# Altium footprint library PcbLib1.PcbLib: 19 footprints (part 1 of 2)
Each footprint in its own frame and in the unit in brackets; x right, y up, seen from the top. Pads: shape width x height; smd on the part's side, far side on the other; paste and mask are expansions set on the pad; w line width, h text height; cw(c..) or ccw(c..) is an arc to the next point about the centre after c.
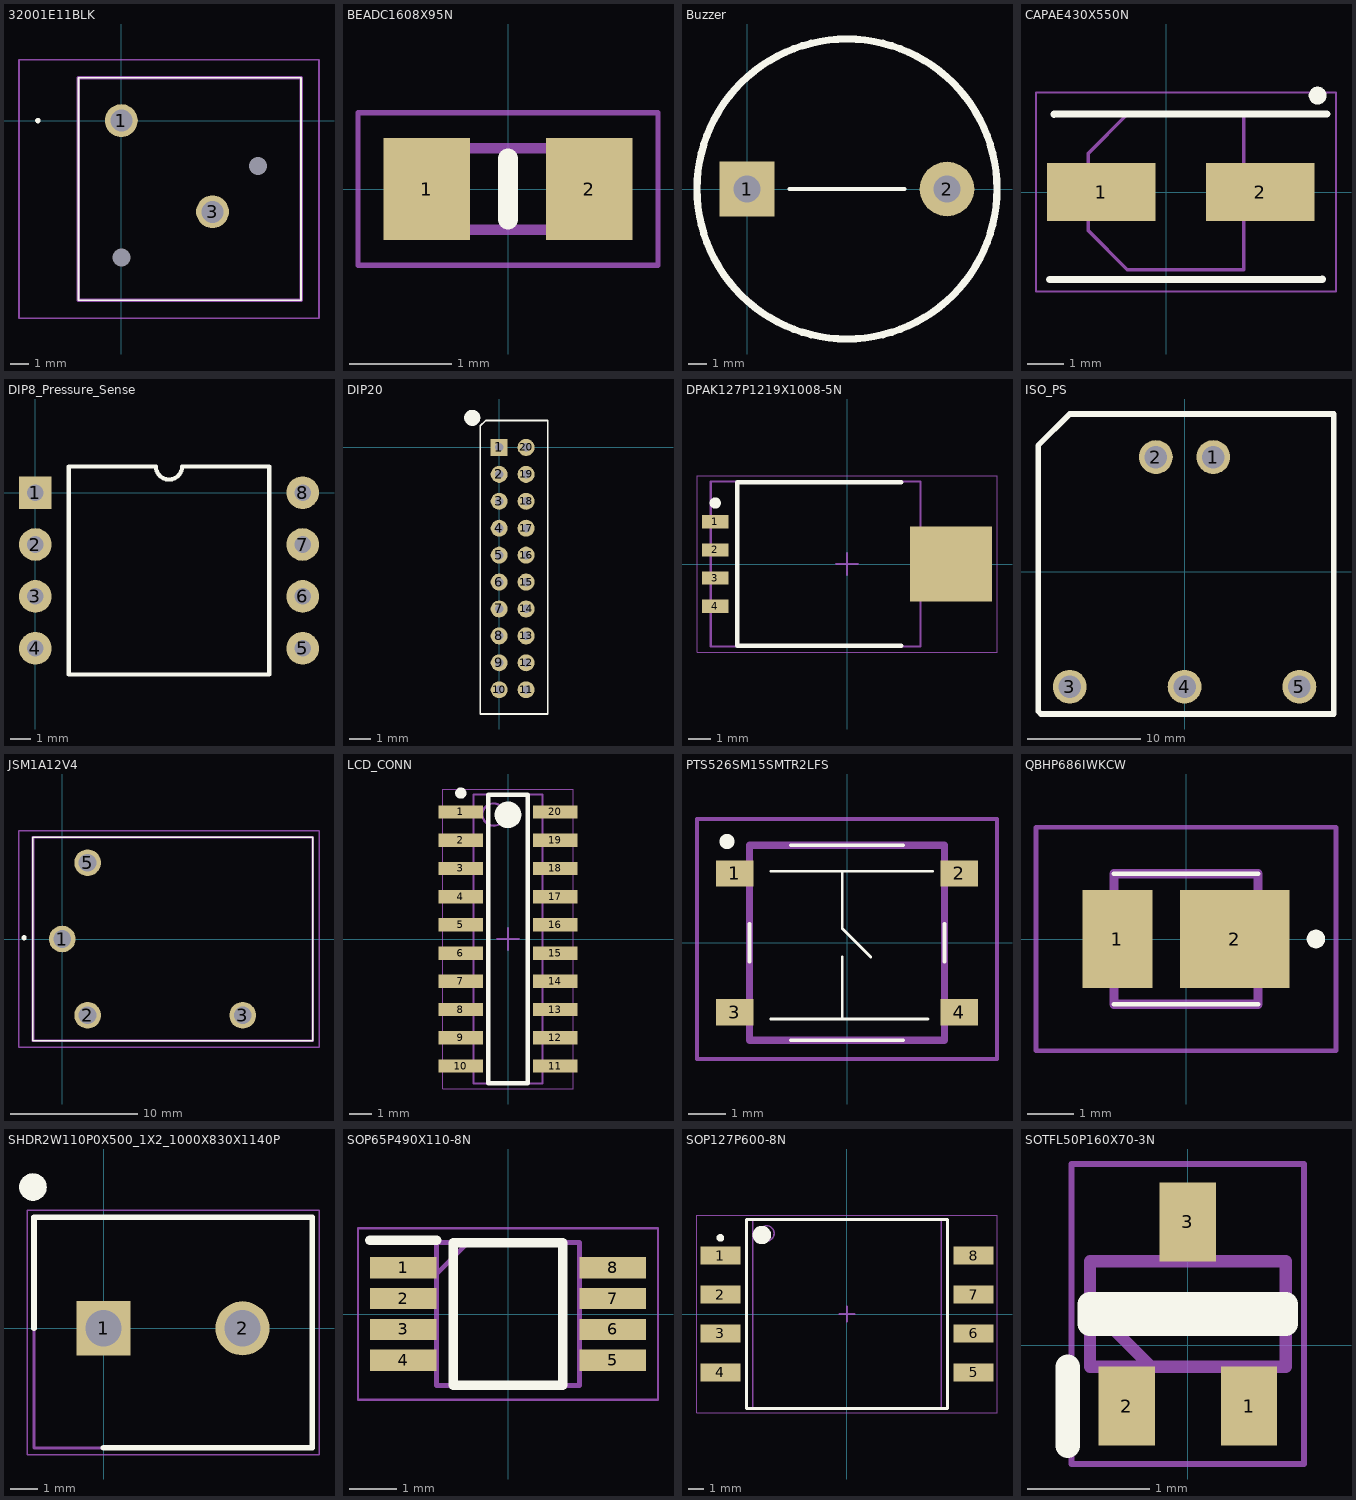
[diagram p0: the footprints below, top view; thin cyan lines are the x and y axes]

## 32001E11BLK [mm]
pads (4):
  round 1.83 hole 1.22: 1(0,0) 3(5.08,-5.08)
  round 0.5 hole 1 unplated: MH1(0,-7.62) MH2(7.62,-2.54)
Top Overlay:
  lines w0.1: -2.39,-10.01 -2.39,2.39 10,2.39 10,-10.01 -2.39,-10.01
  lines w0.2: -4.7,0 ccw(c-4.65,0) -4.6,0 ; -4.7,0 cw(c-4.65,0) -4.6,0 ; -4.7,0 ccw(c-4.65,0) -4.6,0
Mechanical 13:
  lines w0.2: -2.39,-10.01 -2.39,2.39 10.01,2.39 10.01,-10.01 -2.39,-10.01
Mechanical 15:
  lines w0.1: -5.7,-11.01 -5.7,3.39 11.01,3.39 11.01,-11.01 -5.7,-11.01
3D body "320E11xxx.stp": height 3.3, standoff -10.75, extent -2.415,-10.16 10.035,2.29

## BEADC1608X95N [mm]
pads (2):
  rect 0.85x1 smd: 1(-0.8,0) 2(0.8,0)
Top Overlay:
  lines w0.2: 0,-0.3 0,0.3
Mechanical 13:
  lines w0.1: -0.8,-0.4 -0.8,0.4 0.8,0.4 0.8,-0.4 -0.8,-0.4
Mechanical 15:
  lines w0.05: -1.475,-0.75 -1.475,0.75 1.475,0.75 1.475,-0.75 -1.475,-0.75
3D body "BLM18AG102SH1D.stp": height 0.95, standoff 0, extent -0.8,-0.4 0.8,0.4

## Buzzer [mm]
pads (2):
  rect 3x3 hole 1.5: 1(0,0)
  round 3 hole 1.5: 2(11,0)
Top Overlay:
  circle w0.4: c5.5,0 r8.25
  lines w0.2: 2.335,0 5.5,0 8.665,0 2.335,0
3D body "CUI_DEVICES_CPT-1667-85T.step": height 6.8, standoff -6.4, extent -3.043,-7.864 13.457,8.636

## CAPAE430X550N [mm]
pads (3):
  rect 3x1.6 smd: 1(-1.8,0) 2(2.6,0)
  round 0.5 on Top Overlay: ""(4.191,2.667)
Top Overlay:
  lines w0.2: -3.227,-2.422 4.318,-2.413 ; -3.1,2.15 4.445,2.159
Mechanical 13:
  lines w0.1: -2.15,-1.075 -2.15,1.075 -1.075,2.15 2.15,2.15 2.15,-2.15 -1.075,-2.15 -2.15,-1.075
Mechanical 15:
  lines w0.05: -3.6,-2.75 4.699,-2.75 4.699,2.75 -3.6,2.75 -3.6,-2.75
3D body "EEE-1VA100WR.stp": height 5.5, standoff 0, extent -2.3,-2.25 2.3,2.25

## DIP8_Pressure_Sense [mm]
pads (8):
  rect 1.6x1.6 hole 0.813: 1(0,0)
  round 1.6 hole 0.813: 2(0,-2.54) 3(0,-5.08) 4(0,-7.62) 5(13.08,-7.62) 6(13.08,-5.08) 7(13.08,-2.54) 8(13.08,0)
Top Overlay:
  lines w0.2: 1.635,-8.89 1.635,1.27 5.905,1.27 ccw(c6.54,1.27) 7.175,1.27 11.445,1.27 11.445,-8.89 1.635,-8.89

## DIP20 [mm]
pads (20):
  rect 0.8x0.8 hole 0.4: 1(0,0)
  round 0.8 hole 0.4: 2(0,-1.27) 3(0,-2.54) 4(0,-3.81) 5(0,-5.08) 6(0,-6.35) 7(0,-7.62) 8(0,-8.89) 9(0,-10.16) 10(0,-11.43) 11(1.27,-11.43) 12(1.27,-10.16) 13(1.27,-8.89) 14(1.27,-7.62) 15(1.27,-6.35) 16(1.27,-5.08) 17(1.27,-3.81) 18(1.27,-2.54) 19(1.27,-1.27) 20(1.27,0)
Top Overlay:
  circle w0.4: c-1.27,1.397 r0.18
  lines w0.076: -0.889,-12.573 -0.889,1.016 -0.635,1.27 2.286,1.27 2.286,-12.573 -0.889,-12.573

## DPAK127P1219X1008-5N [mm] "TO, 5-Pads, Body 7.84x7.08mm (max), IPC Medium Density"
height 10.08
pads (5):
  rect 1.2x0.6 smd: 1(-5.95,1.905) 2(-5.95,0.635) 3(-5.95,-0.635) 4(-5.95,-1.905)
  rect 3.7x3.4 smd: ""(4.7,0)
Top Overlay:
  circle w0.25: c-5.95,2.755 r0.125
  lines w0.2: 2.45,-3.7 -4.95,-3.7 -4.95,3.7 2.45,3.7
Assembly Top:
  lines w0.1: -6.15,-3.725 -6.15,3.725 3.32,3.725 3.32,-3.725 -6.15,-3.725
Courtyard Top:
  lines w0.05: -6.775,-3.975 -6.775,3.975 6.775,3.975 6.775,-3.975 -6.775,-3.975
  lines w0.1: -0.5,0 0.5,0 ; 0,-0.5 0,0.5
3D body "User Library-pressure_sensor_mpxm2010.step": height 9.65, standoff 0, extent -6.127,-3.65 5.873,3.65

## ISO_PS [mm]
pads (5):
  round 3 hole 2: 1(2.54,10.16) 2(-2.54,10.16) 3(-10.16,-10.16) 4(0,-10.16) 5(10.16,-10.16)
Top Overlay:
  lines w0.5: -12.954,-12.319 -12.7,-12.573 11.684,-12.573 13.208,-12.573 13.208,13.97 -10.16,13.97 -12.954,11.176 -12.954,-12.319

## JSM1A12V4 [mm]
pads (4):
  round 2.1 hole 1.4: 1(0,0) 2(2,-6) 3(14.2,-6) 5(2,6)
Top Overlay:
  lines w0.1: -2.3,-8 -2.3,8 19.7,8 19.7,-8 -2.3,-8
  lines w0.2: -3,0 ccw(c-3,0.1) -3,0.2 ccw(c-3,0.1) -3,0
Mechanical 13:
  lines w0.2: -2.3,-8 -2.3,8 19.7,8 19.7,-8 -2.3,-8
Mechanical 15:
  lines w0.1: -3.4,-8.5 -3.4,8.5 20.2,8.5 20.2,-8.5 -3.4,-8.5
3D body "JSM1A-12V-4.stp": height 16.4, standoff -5, extent -2.3,-8 19.7,8

## LCD_CONN [mm]
height 4.55
pads (20):
  rect 2x0.6 smd: 1(-2.125,5.715) 2(-2.125,4.445) 3(-2.125,3.175) 4(-2.125,1.905) 5(-2.125,0.635) 6(-2.125,-0.635) 7(-2.125,-1.905) 8(-2.125,-3.175) 9(-2.125,-4.445) 10(-2.125,-5.715) 11(2.125,-5.715) 12(2.125,-4.445) 13(2.125,-3.175) 14(2.125,-1.905) 15(2.125,-0.635) 16(2.125,0.635) 17(2.125,1.905) 18(2.125,3.175) 19(2.125,4.445) 20(2.125,5.715)
Top Overlay:
  circle w0.25: c-2.125,6.565 r0.125
  circle w0.6: c0,5.588 r0.3
  lines w0.2: -0.889,-6.5 -0.889,6.5 0.889,6.5 0.889,-6.5 -0.889,-6.5
Assembly Top:
  circle w0.1: c-0.65,5.6 r0.5
  lines w0.1: -1.55,-6.5 -1.55,6.5 1.55,6.5 1.55,-6.5 -1.55,-6.5
Courtyard Top:
  lines w0.05: -2.925,-6.75 -2.925,6.75 2.925,6.75 2.925,-6.75 -2.925,-6.75
  lines w0.1: -0.5,0 0.5,0 ; 0,-0.5 0,0.5
3D body: height 4.55, standoff 0.15, extent -1.55,-6.5 1.55,6.5

## PTS526SM15SMTR2LFS [mm]
pads (4):
  rect 1x0.7 smd: 1(-3,1.85) 2(3,1.85) 3(-3,-1.85) 4(3,-1.85)
Top Overlay:
  lines w0.076: -2.032,-2.032 2.159,-2.032 ; -2.032,1.905 2.286,1.905 ; -0.127,-2.032 -0.127,-0.381 ; -0.127,1.905 -0.127,1.397 -0.127,0.381 0.635,-0.381
  lines w0.1: -2.6,-0.5 -2.6,0.5 ; -1.5,-2.6 1.5,-2.6 ; -1.5,2.6 1.5,2.6 ; 2.6,-0.5 2.6,0.5
  lines w0.2: -3.2,2.6 ccw(c-3.2,2.7) -3.2,2.8 ccw(c-3.2,2.7) -3.2,2.6
Mechanical 13:
  lines w0.2: -2.6,-2.6 -2.6,2.6 2.6,2.6 2.6,-2.6 -2.6,-2.6
Mechanical 15:
  lines w0.1: -4,-3.1 -4,3.3 4,3.3 4,-3.1 -4,-3.1
3D body "PTS526_SM15_SMTR2_LFS.stp": height 1.6, standoff 0, extent -3.43,-2.6 3.43,2.6

## QBHP686IWKCW [mm]
pads (2):
  rect 1.5x2.1 smd: 1(-1.475,0)
  rect 2.35x2.1 smd: 2(1.05,0)
Top Overlay:
  lines w0.1: -1.55,-1.4 1.55,-1.4 ; -1.55,1.4 1.55,1.4
  lines w0.2: 2.794,-0.1 ccw(c2.794,0) 2.794,0.1 ccw(c2.794,0) 2.794,-0.1
Mechanical 13:
  lines w0.2: -1.55,-1.4 -1.55,1.4 1.55,1.4 1.55,-1.4 -1.55,-1.4
Mechanical 15:
  lines w0.1: -3.225,-2.4 -3.225,2.4 3.225,2.4 3.225,-2.4 -3.225,-2.4
3D body "QBHP686-IWK-CW.stp": height 1.1, standoff 0, extent -1.55,-1.4 1.55,1.4

## SHDR2W110P0X500_1X2_1000X830X1140P [mm]
pads (3):
  rect 1.95x1.95 hole 1.3: 1(0,0)
  round 1.95 hole 1.3: 2(5,0)
  round 1 on Top Overlay: ""(-2.54,5.08)
Top Overlay:
  lines w0.2: -2.5,0 -2.5,4 7.5,4 7.5,-4.3 0,-4.3
Mechanical 13:
  lines w0.1: -2.5,-4.3 7.5,-4.3 7.5,4 -2.5,4 -2.5,-4.3
Mechanical 15:
  lines w0.05: -2.75,-4.55 7.75,-4.55 7.75,4.25 -2.75,4.25 -2.75,-4.55
3D body "1935161.stp": height 11.9, standoff -3, extent -2.667,-5.135 7.903,3.865

## SOP65P490X110-8N [mm]
pads (8):
  rect 1.4x0.45 smd: 1(-2.2,0.975) 2(-2.2,0.325) 3(-2.2,-0.325) 4(-2.2,-0.975) 5(2.2,-0.975) 6(2.2,-0.325) 7(2.2,0.325) 8(2.2,0.975)
Top Overlay:
  lines w0.2: -2.9,1.55 -1.5,1.55 ; -1.15,-1.5 -1.15,1.5 1.15,1.5 1.15,-1.5 -1.15,-1.5
Mechanical 13:
  lines w0.1: -1.5,0.85 -0.85,1.5 ; -1.5,-1.5 -1.5,1.5 1.5,1.5 1.5,-1.5 -1.5,-1.5
Mechanical 15:
  lines w0.05: -3.15,-1.8 -3.15,1.8 3.15,1.8 3.15,-1.8 -3.15,-1.8
3D body "INA826AIDGKR.stp": height 1.1, standoff 0, extent -2.45,-1.5 2.45,1.5

## SOP127P600-8N [mm]
height 8.38
pads (8):
  rect 2.6x1.2 smd: 1(-8.25,3.81) 2(-8.25,1.27) 3(-8.25,-1.27) 4(-8.25,-3.81) 5(8.25,-3.81) 6(8.25,-1.27) 7(8.25,1.27) 8(8.25,3.81)
Top Overlay:
  circle w0.6: c-5.55,5.15 r0.3
  circle w0.25: c-8.25,4.96 r0.125
  lines w0.2: -6.55,-6.15 6.55,-6.15 6.55,6.15 -6.55,6.15 -6.55,-6.15
Assembly Top:
  circle w0.1: c-5.25,5.25 r0.5
  lines w0.1: -6.15,-6.15 6.15,-6.15 6.15,6.15 -6.15,6.15 -6.15,-6.15
Courtyard Top:
  lines w0.05: -9.775,-6.45 9.775,-6.45 9.775,6.45 -9.775,6.45 -9.775,-6.45
  lines w0.1: -0.5,0 0.5,0 ; 0,-0.5 0,0.5
3D body "User Library-Freescale MPX.step": height 13, standoff 0, extent -8.973,-5.458 9.227,5.842

## SOTFL50P160X70-3N [mm]
pads (3):
  rect 0.46x0.645 smd: 1(0.5,-0.498) 2(-0.5,-0.498) 3(0,1.006)
Top Overlay:
  lines w0.2: -0.98,-0.821 -0.98,-0.176 ; -0.8,0.174 0.8,0.174 0.8,0.334 -0.8,0.334 -0.8,0.174
Mechanical 13:
  lines w0.1: -0.8,0.324 -0.3,-0.176 ; -0.8,-0.176 0.8,-0.176 0.8,0.684 -0.8,0.684 -0.8,-0.176
Mechanical 15:
  lines w0.05: -0.95,-0.971 0.95,-0.971 0.95,1.479 -0.95,1.479 -0.95,-0.971
3D body "2SCR522EBTL.stp": height 0.7, standoff 0, extent -0.8,-0.546 0.8,1.054